# EAGLE library part A4989 (library A4989)
A4989 - Dual Full-Bridge MOSFET Driver with Microstepping Translator Vbb = 12-50v Vdd = 3-5v Vil < 0.3Vdd Vih > 0.7Vdd
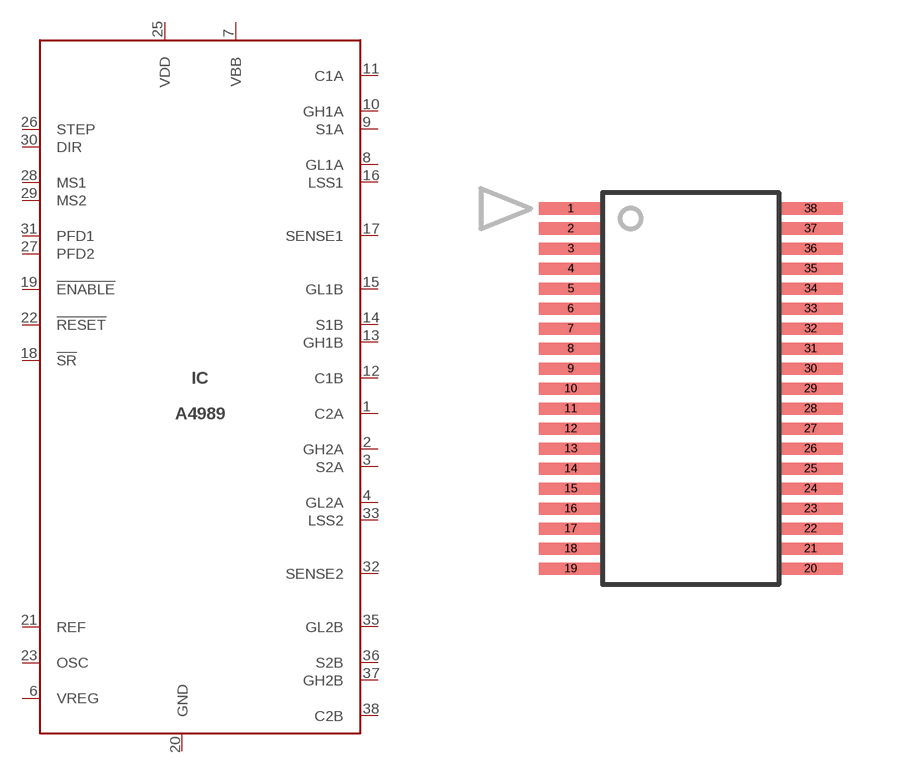
[diagram p0: symbol with the pads of TSSOP-38-0.5; footprint TSSOP-38-0.5]

Designator prefix IC

## A4989SLDTR-T (MF: ALLEGRO; MPN: A4989SLDTR-T)  [TSSOP-38-0.5]
1  C2A  in
2  GH2A  out
3  S2A  in
4  GL2A  out
6  VREG
7  VBB  in
8  GL1A  out
9  S1A  in
10  GH1A  out
11  C1A  in
12  C1B  in
13  GH1B  out
14  S1B  in
15  GL1B  out
16  LSS1  in
17  SENSE1  in
18  !SR  in
19  !ENABLE  in
20  GND
21  REF  in
22  !RESET  in
23  OSC
25  VDD  in
26  STEP  in
27  PFD2  in
28  MS1  in
29  MS2  in
30  DIR  in
31  PFD1  in
32  SENSE2  in
33  LSS2  in
35  GL2B  out
36  S2B  in
37  GH2B  out
38  C2B  in

## Footprint TSSOP-38-0.5 (pad centres in mm)
smd 1.6 x 0.3: 1 -3,4.5; 2 -3,4; 3 -3,3.5; 4 -3,3; 5 -3,2.5; 6 -3,2; 7 -3,1.5; 8 -3,1; 9 -3,0.5; 10 -3,0; 11 -3,-0.5; 12 -3,-1; 13 -3,-1.5; 14 -3,-2; 15 -3,-2.5; 16 -3,-3; 17 -3,-3.5; 18 -3,-4; 19 -3,-4.5; 20 3,-4.5; 21 3,-4; 22 3,-3.5; 23 3,-3; 24 3,-2.5; 25 3,-2; 26 3,-1.5; 27 3,-1; 28 3,-0.5; 29 3,0; 30 3,0.5; 31 3,1; 32 3,1.5; 33 3,2; 34 3,2.5; 35 3,3; 36 3,3.5; 37 3,4; 38 3,4.5